# Altium footprint library M24C.PcbLib: 1 footprints
Each footprint in its own frame and in the unit in brackets; x right, y up, seen from the top. Pads: shape width x height; smd on the part's side, far side on the other; paste and mask are expansions set on the pad; w line width, h text height; cw(c..) or ccw(c..) is an arc to the next point about the centre after c.
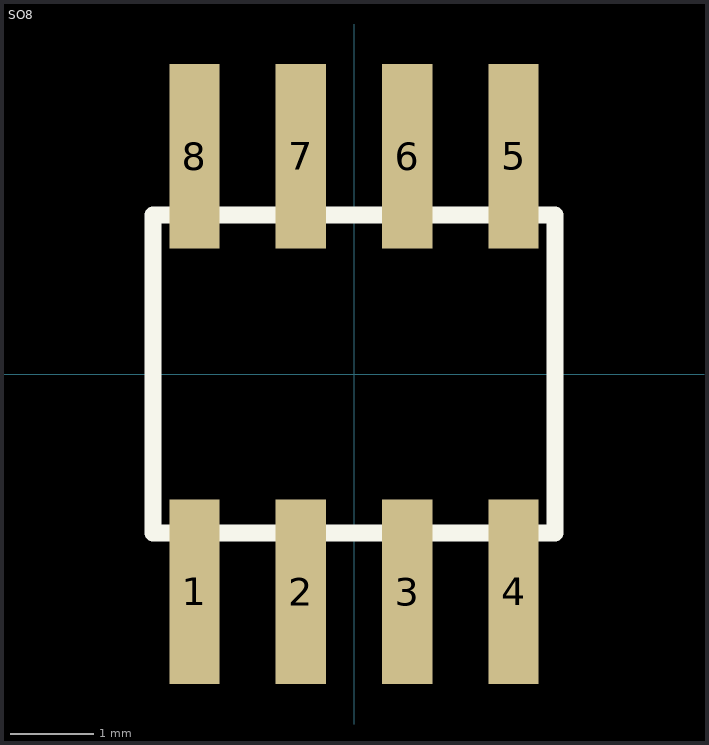
[diagram p0: the footprint, top view; thin cyan lines are the x and y axes]

## SO8 [mm]
pads (8):
  rect 0.6x2.2 smd paste-25.4 mask-25.4: 1(-1.905,-2.6) 2(-0.635,-2.6) 3(0.635,-2.6) 4(1.905,-2.6) 5(1.905,2.6) 6(0.635,2.6) 7(-0.635,2.6) 8(-1.905,2.6)
Top Overlay:
  lines w0.2: -2.4,-1.9 -2.4,1.9 ; 2.4,-1.9 2.4,1.9
  lines w0.203: -2.4,-1.9 2.4,-1.9 ; -2.4,1.9 2.4,1.9
Top Paste:
  region: 1.605,1.5 2.205,1.5 2.205,3.7 1.605,3.7
  region: 0.335,1.5 0.935,1.5 0.935,3.7 0.335,3.7
  region: -2.205,1.5 -1.605,1.5 -1.605,3.7 -2.205,3.7
  region: 1.605,-3.7 2.205,-3.7 2.205,-1.5 1.605,-1.5
  region: 0.335,-3.7 0.935,-3.7 0.935,-1.5 0.335,-1.5
  region: -2.205,-3.7 -1.605,-3.7 -1.605,-1.5 -2.205,-1.5
  region: -0.935,1.5 -0.335,1.5 -0.335,3.7 -0.935,3.7
  region: -0.935,-3.7 -0.335,-3.7 -0.335,-1.5 -0.935,-1.5
Top Solder:
  region: 1.505,1.4 2.305,1.4 2.305,3.8 1.505,3.8
  region: 0.235,1.4 1.035,1.4 1.035,3.8 0.235,3.8
  region: -2.305,1.4 -1.505,1.4 -1.505,3.8 -2.305,3.8
  region: 1.505,-3.8 2.305,-3.8 2.305,-1.4 1.505,-1.4
  region: 0.235,-3.8 1.035,-3.8 1.035,-1.4 0.235,-1.4
  region: -2.305,-3.8 -1.505,-3.8 -1.505,-1.4 -2.305,-1.4
  region: -1.035,1.4 -0.235,1.4 -0.235,3.8 -1.035,3.8
  region: -1.035,-3.8 -0.235,-3.8 -0.235,-1.4 -1.035,-1.4